# Altium footprint library 2125201004.PcbLib: 1 footprints
Each footprint in its own frame and in the unit in brackets; x right, y up, seen from the top. Pads: shape width x height; smd on the part's side, far side on the other; paste and mask are expansions set on the pad; w line width, h text height; cw(c..) or ccw(c..) is an arc to the next point about the centre after c.
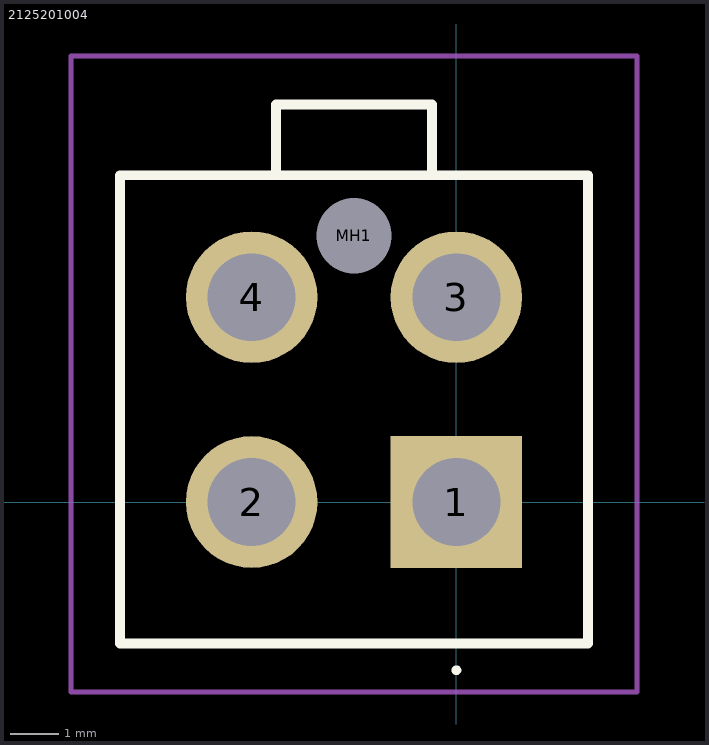
[diagram p0: the footprint, top view; thin cyan lines are the x and y axes]

## 2125201004 [mm]
pads (5):
  rect 2.7x2.7 hole 1.8: 1(0,0)
  round 2.7 hole 1.8: 2(-4.2,0) 3(0,4.2) 4(-4.2,4.2)
  round 0.77 hole 1.54 unplated: MH1(-2.1,5.46)
Top Overlay:
  lines w0.1: 0,-3.5 cw(c0,-3.45) 0,-3.4 ; 0,-3.5 0,-3.5 ; 0,-3.5 ccw(c0,-3.45) 0,-3.4 ; 0,-3.4 0,-3.4
  lines w0.2: -3.7,6.7 -3.7,8.15 -0.5,8.15 -0.5,6.7 ; -6.9,-2.9 2.7,-2.9 2.7,6.7 -6.9,6.7 -6.9,-2.9
Mechanical 15:
  lines w0.1: -3.7,6.7 -3.7,8.15 -0.5,8.15 -0.5,6.7 ; -6.9,-2.9 2.7,-2.9 2.7,6.7 -6.9,6.7 -6.9,-2.9
Mechanical 20:
  lines w0.1: -7.9,-3.9 3.7,-3.9 3.7,9.15 -7.9,9.15 -7.9,-3.9